# Altium schematic symbol library SCH - DRIVER - LED - TI TPS92641PWP.SchLib: 1 symbol
Pins are listed as number, name and electrical type; pins without a type are passive.

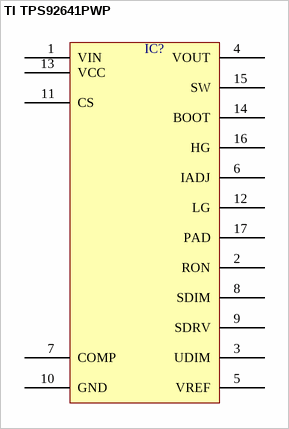
[diagram p0: symbol TI TPS92641PWP]

## TI TPS92641PWP
designator IC?  (value not drawn)
pins: 1 VIN, 2 RON, 3 UDIM, 4 VOUT, 5 VREF, 6 IADJ, 7 COMP, 8 SDIM, 9 SDRV, 10 GND, 11 CS, 12 LG, 13 VCC, 14 BOOT, 15 SW, 16 HG, 17 PAD